# Altium footprint library Test_Point.PcbLib: 5 footprints
Each footprint in its own frame and in the unit in brackets; x right, y up, seen from the top. Pads: shape width x height; smd on the part's side, far side on the other; paste and mask are expansions set on the pad; w line width, h text height; cw(c..) or ccw(c..) is an arc to the next point about the centre after c.
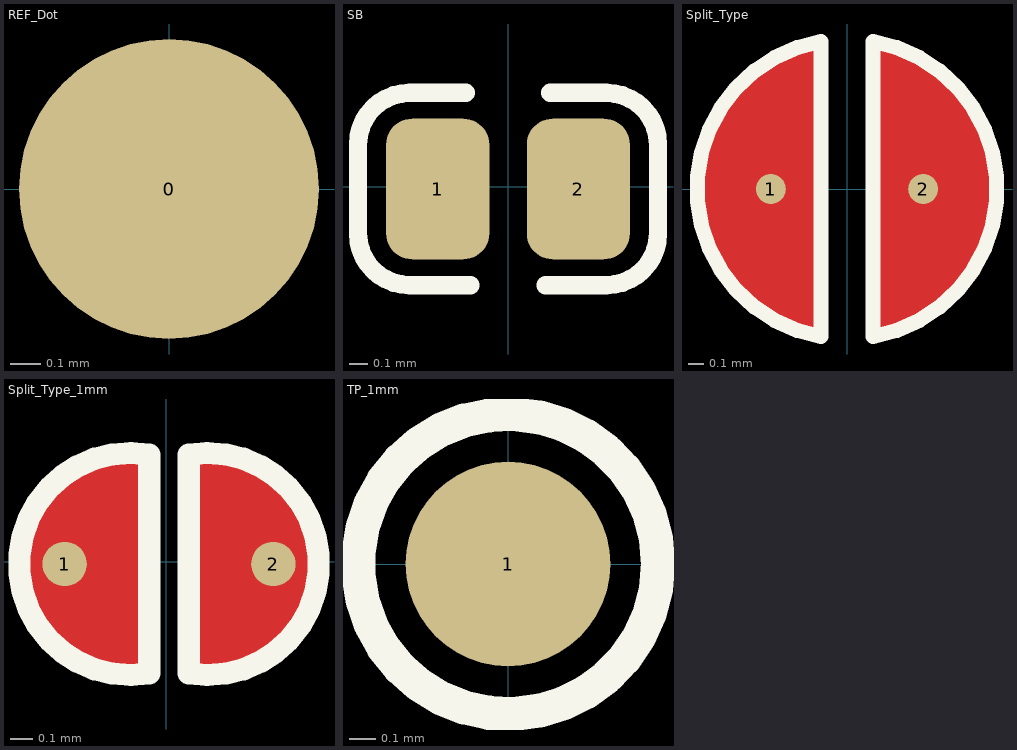
[diagram p0: the footprints below, top view; thin cyan lines are the x and y axes]

## REF_Dot [mm]
pads (1):
  round 1 smd mask+1: 0(0,0)

## SB [mil]
pads (2):
  rrect50% 22x30 smd: 1(-15,-0.5) 2(15,-0.5)
Top Overlay:
  lines w3.94: -9,20 -13,20 -21,20 ccw(c-21,9) -32,9 -32,-10 ccw(c-21,-10) -21,-21 -8,-21 ; 8,-21 21,-21 ccw(c21,-10) 32,-10 32,9 ccw(c21,9) 21,20 13,20 9,20
Top Solder:
  rectangle: -26,-11 28,9

## Split_Type [mm]
pads (2):
  round 0.2 smd mask+0.102: 1(-0.508,0) 2(0.508,0)
Top Layer:
  region: 0.174,-0.985 0.174,0.985 0.289,0.965 0.503,0.872 0.691,0.732 0.841,0.553 0.946,0.344 1,0.117 1,-0.117 0.946,-0.344 0.841,-0.553 0.691,-0.732 0.503,-0.872 0.289,-0.965
  region: -0.174,-0.985 -0.289,-0.965 -0.503,-0.872 -0.691,-0.732 -0.841,-0.553 -0.946,-0.344 -1,-0.117 -1,0.117 -0.946,0.344 -0.841,0.553 -0.691,0.732 -0.503,0.872 -0.289,0.965 -0.174,0.985
Top Overlay:
  lines w0.1: -0.174,-0.985 cw(c0,0) -0.174,0.985 -0.174,-0.985 ; 0.174,-0.985 ccw(c0,0) 0.174,0.985 0.174,-0.985

## Split_Type_1mm [mm]
pads (2):
  round 0.2 smd mask+0.102: 1(-0.457,-0.01) 2(0.483,-0.01)
Top Layer:
  region: -0.076,-0.502 -0.185,-0.521 -0.4,-0.464 -0.569,-0.322 -0.663,-0.121 -0.663,0.101 -0.569,0.302 -0.4,0.444 -0.185,0.502 -0.076,0.483
  region: 0.102,-0.495 0.102,0.483 0.211,0.502 0.425,0.444 0.595,0.302 0.688,0.101 0.688,-0.121 0.595,-0.322 0.425,-0.464 0.211,-0.521 0.102,-0.502
Top Overlay:
  lines w0.1: -0.076,-0.502 cw(c-0.163,-0.01) -0.076,0.483 -0.076,-0.495 ; 0.102,-0.502 ccw(c0.188,-0.01) 0.102,0.483 0.102,-0.495

## TP_1mm [mil]
pads (1):
  round 30 smd: 1(0,0)
Top Overlay:
  circle w5: c0,0 r22